# EAGLE library part MK-12C01 (library Domino)
Slide Switch 1P2T 6V DC 0.3A
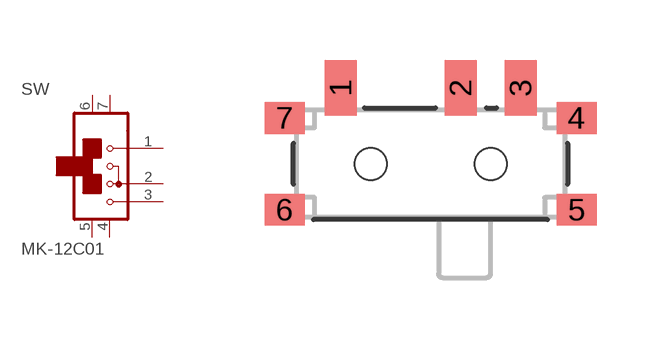
[diagram p48: symbol with the pads of MK-12C01; footprint MK-12C01]

Designator prefix SW

## MK-12C01  [MK-12C01]
1  1  pas
2  2  pas
3  3  pas
4  4  pas
5  5  pas
6  6  pas
7  7  pas

## Footprint MK-12C01 (pad centres in mm)
Slide Switch 1P2T 6V DC 0.3A
smd 0.8 x 1.4: 1 -2.25,1.9; 2 0.75,1.9; 3 2.25,1.9
smd 1 x 0.8: 4 3.65,1.15; 5 3.65,-1.15; 6 -3.65,-1.15; 7 -3.65,1.15
hole 0.8 at -1.5,0
hole 0.8 at 1.5,0